# EAGLE library part TE3/10 (library busbar)
BUS BAR 10 connections, grid 3 TE
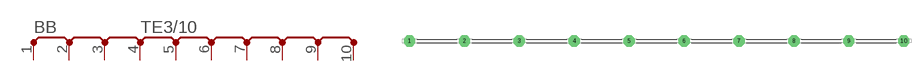
[diagram p4: symbol with the pads of TE3/10; footprint TE3/10]

Designator prefix BB

## TE3/10  [TE3/10]
1  P  pas
2  P  pas
3  P  pas
4  P  pas
5  P  pas
6  P  pas
7  P  pas
8  P  pas
9  P  pas
10  P  pas

## Footprint TE3/10 (pad centres in mm)
BUS BAR 10 connections, grid 3 TE
drill 1.6 pad 3.15 octagon: 1 -68.58,0; 2 -53.34,0; 3 -38.1,0; 4 -22.86,0; 5 -7.62,0; 6 7.62,0; 7 22.86,0; 8 38.1,0; 9 53.34,0; 10 68.58,0